# Altium footprint library XL6009.PcbLib: 1 footprints
Each footprint in its own frame and in the unit in brackets; x right, y up, seen from the top. Pads: shape width x height; smd on the part's side, far side on the other; paste and mask are expansions set on the pad; w line width, h text height; cw(c..) or ccw(c..) is an arc to the next point about the centre after c.
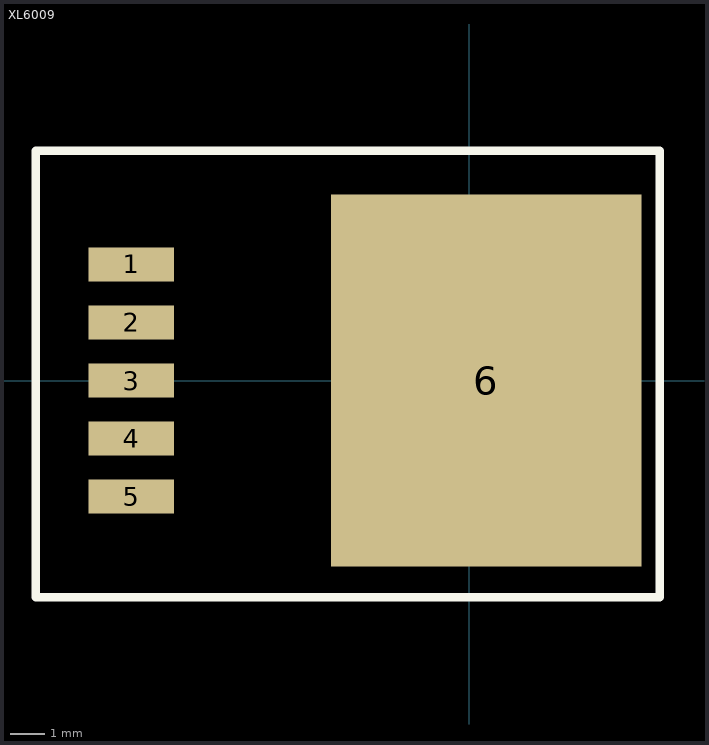
[diagram p0: the footprint, top view; thin cyan lines are the x and y axes]

## XL6009 [mm]
pads (6):
  rect 2.5x1 smd: 1(-9.9,3.4) 2(-9.9,1.7) 3(-9.9,0) 4(-9.9,-1.7) 5(-9.9,-3.4)
  rect 9.1x10.9 smd: 6(0.5,0)
Top Overlay:
  lines w0.254: -12.7,-6.35 5.588,-6.35 5.588,6.731 -12.7,6.731 -12.7,-6.35
3D body "User Library-TO263-5.STEP": height 4.78, standoff -0.02, extent -10.959,-4.873 4.711,5.127